# Altium schematic symbol library USB_R_A.SchLib: 1 symbol
Pins are listed as number, name and electrical type; pins without a type are passive.

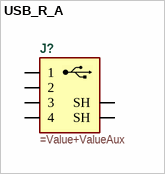
[diagram p0: symbol USB_R_A]

## USB_R_A
designator J?
=Description
pins: 1, 2, 3, 4, SH, SH